# Altium footprint library WE-MCRI.PcbLib: 2 footprints
Each footprint in its own frame and in the unit in brackets; x right, y up, seen from the top. Pads: shape width x height; smd on the part's side, far side on the other; paste and mask are expansions set on the pad; w line width, h text height; cw(c..) or ccw(c..) is an arc to the next point about the centre after c.
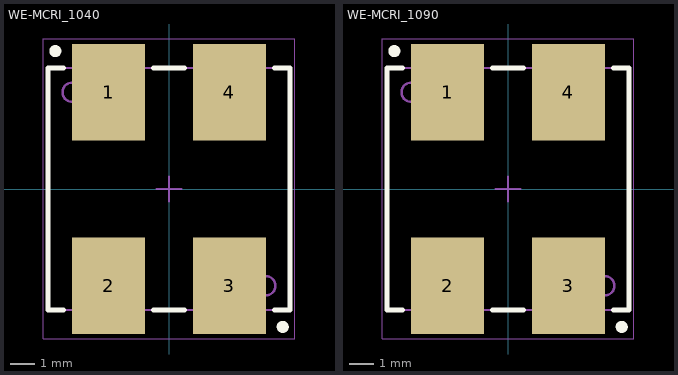
[diagram p0: the footprints below, top view; thin cyan lines are the x and y axes]

## WE-MCRI_1040 [mm] "SMD Coupled Inductor, 2-Leads, body 10x10mm"
height 4.1
pads (4):
  rect 3x4 smd: 1(-2.5,4) 2(-2.5,-4) 3(2.5,-4) 4(2.5,4)
Top Overlay:
  circle w0.25: c4.7,-5.7 r0.125
  circle w0.25: c-4.7,5.7 r0.125
  lines w0.2: -4.35,-5 -5,-5 -5,5 -4.35,5 ; -0.65,-5 0.65,-5 ; -0.65,5 0.65,5 ; 4.35,-5 5,-5 5,5 4.35,5
Top Assembly:
  circle w0.1: c4,-4 r0.4
  circle w0.1: c-4,4 r0.4
  lines w0.1: -5,-5 5,-5 5,5 -5,5 -5,-5
Top Designator:
  text ".Designator" at -3.647,-0.357 h1
Top Courtyard:
  lines w0.05: -5.2,-6.2 5.2,-6.2 5.2,6.2 -5.2,6.2 -5.2,-6.2
Top Component Center:
  lines w0.1: -0.5,0 0.5,0 ; 0,-0.5 0,0.5
3D body "7448991xxx_1040.stp": height 4.1, standoff 0, extent -5,-5.35 5,5.35

## WE-MCRI_1090 [mm] "SMD Coupled Inductor, 2-Leads, body 10x10mm"
height 9
pads (4):
  rect 3x4 smd: 1(-2.5,4) 2(-2.5,-4) 3(2.5,-4) 4(2.5,4)
Top Overlay:
  circle w0.25: c-4.7,5.7 r0.125
  circle w0.25: c4.7,-5.7 r0.125
  lines w0.2: -4.35,-5 -5,-5 -5,5 -4.35,5 ; -0.65,-5 0.65,-5 ; -0.65,5 0.65,5 ; 4.35,-5 5,-5 5,5 4.35,5
Top Assembly:
  circle w0.1: c-4,4 r0.4
  circle w0.1: c4,-4 r0.4
  lines w0.1: -5,-5 -5,5 5,5 5,-5 -5,-5
Top Designator:
  text ".Designator" at -3.647,-0.357 h1
Top Courtyard:
  lines w0.05: -5.2,-6.2 -5.2,6.2 5.2,6.2 5.2,-6.2 -5.2,-6.2
Top Component Center:
  lines w0.1: -0.5,0 0.5,0 ; 0,-0.5 0,0.5
3D body "7448990xxx_1090.stp": height 9, standoff 0, extent -5,-5.35 5,5.35